# Altium integrated library National Semiconductor Switcher.IntLib: 2226 symbols (part 22 of 59)
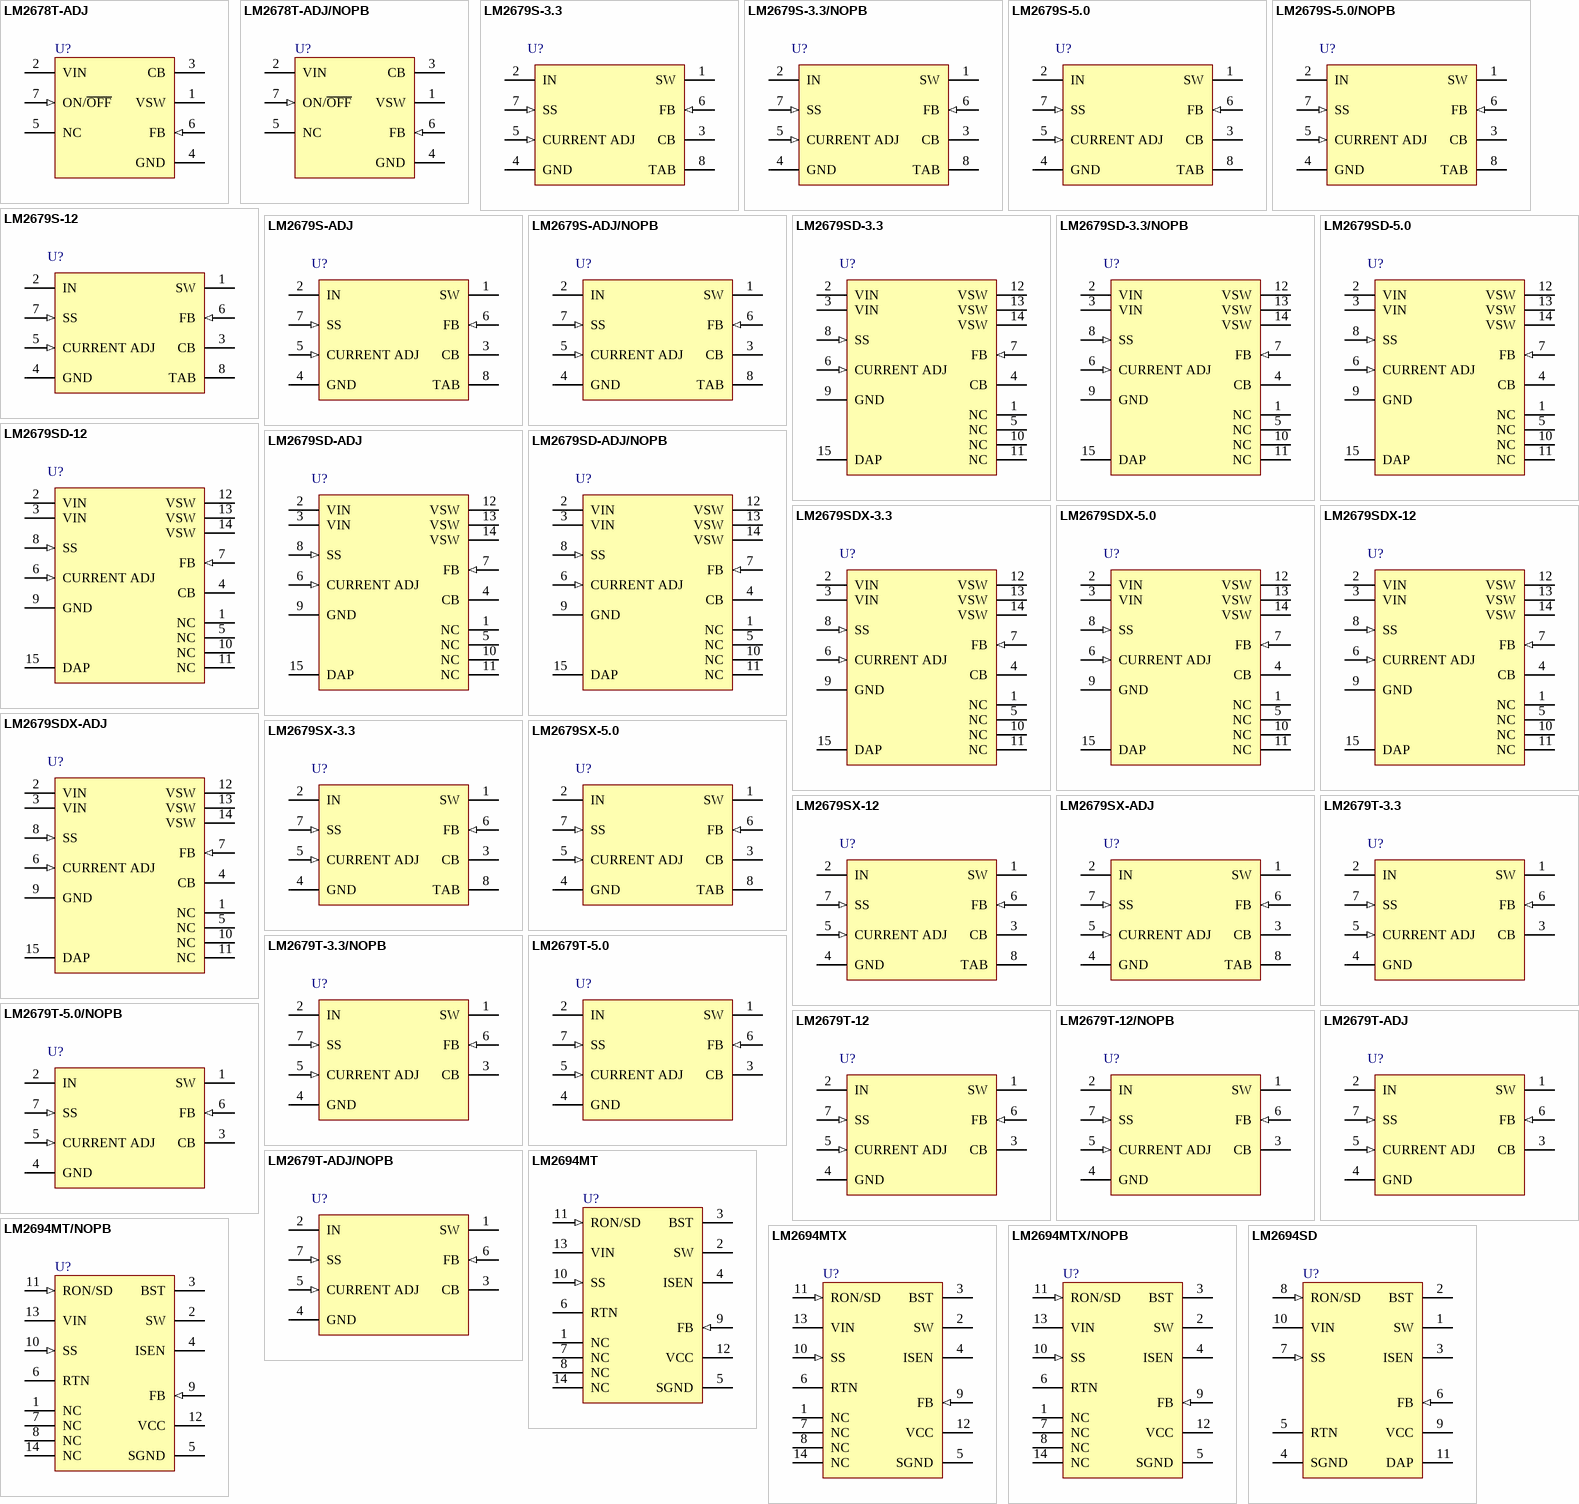
[diagram p90: symbols LM2678T-ADJ to LM2694SD]

## LM2679T-12
designator U?
SIMPLE SWITCHER® 5A Step-Down Voltage Regulator with Adjustable Current Limit, 7-pin TO-220; PartNumber: LM2679T-12; Manufacturer: National Semiconductor; PackageTopMarking: NSUZXYTTE#*LM2679*T-12; PowerWise: N; High-Reliability: Y; DatasheetVersion: Feb-2008; PackageVersion: revC, Apr-1999; PackageReference: TA07B; PackageDescription: TO-220, Molded, .400 x .590 x .180in Body, 7 Lead, .050in Pitch, Staggered; RoHS: N; PinCount: 7; CompType: Switcher; Code_JEDEC: TO-220-AB; ComponentLink1Description: Manufacturer URL; ComponentLink1URL: http://www.national.com/; ComponentLink2Description: LM2679 Datasheet; ComponentLink2URL: http://www.national.com/ds/LM/LM2679.pdf; ComponentLink3Description: LM2679 Web Page; ComponentLink3URL: http://www.national.com/pf/LM/LM2679.html; ComponentLink4Description: TA07B Package Page; ComponentLink4URL: http://www.national.com/packaging/folders/ta07b.html
footprint TA07B (TO, Thru-Hole, Vertical, Heatsink Mounted; 7 Bent Staggered Leads; Body 10.2x8.7x4.6mm, Pitch 1.27 mm)
pins: 1 SW (power), 2 IN (power), 3 CB, 4 GND (power), 5 CURRENT ADJ (in), 6 FB (in), 7 SS (in)

## LM2679T-12/NOPB
designator U?
SIMPLE SWITCHER® 5A Step-Down Voltage Regulator with Adjustable Current Limit, 7-pin TO-220, Pb-Free; PartNumber: LM2679T-12/NOPB; Manufacturer: National Semiconductor; PackageTopMarking: NSUZXYTTE#*LM2679*T-12; PowerWise: N; High-Reliability: Y; DatasheetVersion: Feb-2008; PackageVersion: revC, Apr-1999; PackageReference: TA07B; PackageDescription: TO-220, Molded, .400 x .590 x .180in Body, 7 Lead, .050in Pitch, Staggered; RoHS: Y; PinCount: 7; CompType: Switcher; Code_JEDEC: TO-220-AB; ComponentLink1Description: Manufacturer URL; ComponentLink1URL: http://www.national.com/; ComponentLink2Description: LM2679 Datasheet; ComponentLink2URL: http://www.national.com/ds/LM/LM2679.pdf; ComponentLink3Description: LM2679 Web Page; ComponentLink3URL: http://www.national.com/pf/LM/LM2679.html; ComponentLink4Description: TA07B Package Page; ComponentLink4URL: http://www.national.com/packaging/folders/ta07b.html
footprint TA07B (TO, Thru-Hole, Vertical, Heatsink Mounted; 7 Bent Staggered Leads; Body 10.2x8.7x4.6mm, Pitch 1.27 mm)
pins: 1 SW (power), 2 IN (power), 3 CB, 4 GND (power), 5 CURRENT ADJ (in), 6 FB (in), 7 SS (in)

## LM2679T-ADJ
designator U?
SIMPLE SWITCHER® 5A Step-Down Voltage Regulator with Adjustable Current Limit, 7-pin TO-220; PartNumber: LM2679T-ADJ; Manufacturer: National Semiconductor; PackageTopMarking: NSUZXYTTE#*LM2679*T-ADJ; PowerWise: N; High-Reliability: Y; DatasheetVersion: Feb-2008; PackageVersion: revC, Apr-1999; PackageReference: TA07B; PackageDescription: TO-220, Molded, .400 x .590 x .180in Body, 7 Lead, .050in Pitch, Staggered; RoHS: N; PinCount: 7; CompType: Switcher; Code_JEDEC: TO-220-AB; ComponentLink1Description: Manufacturer URL; ComponentLink1URL: http://www.national.com/; ComponentLink2Description: LM2679 Datasheet; ComponentLink2URL: http://www.national.com/ds/LM/LM2679.pdf; ComponentLink3Description: LM2679 Web Page; ComponentLink3URL: http://www.national.com/pf/LM/LM2679.html; ComponentLink4Description: TA07B Package Page; ComponentLink4URL: http://www.national.com/packaging/folders/ta07b.html
footprint TA07B (TO, Thru-Hole, Vertical, Heatsink Mounted; 7 Bent Staggered Leads; Body 10.2x8.7x4.6mm, Pitch 1.27 mm)
pins: 1 SW (power), 2 IN (power), 3 CB, 4 GND (power), 5 CURRENT ADJ (in), 6 FB (in), 7 SS (in)

## LM2679T-ADJ/NOPB
designator U?
SIMPLE SWITCHER® 5A Step-Down Voltage Regulator with Adjustable Current Limit, 7-pin TO-220, Pb-Free; PartNumber: LM2679T-ADJ/NOPB; Manufacturer: National Semiconductor; PackageTopMarking: NSUZXYTTE#*LM2679*T-ADJ; PowerWise: N; High-Reliability: Y; DatasheetVersion: Feb-2008; PackageVersion: revC, Apr-1999; PackageReference: TA07B; PackageDescription: TO-220, Molded, .400 x .590 x .180in Body, 7 Lead, .050in Pitch, Staggered; RoHS: Y; PinCount: 7; CompType: Switcher; Code_JEDEC: TO-220-AB; ComponentLink1Description: Manufacturer URL; ComponentLink1URL: http://www.national.com/; ComponentLink2Description: LM2679 Datasheet; ComponentLink2URL: http://www.national.com/ds/LM/LM2679.pdf; ComponentLink3Description: LM2679 Web Page; ComponentLink3URL: http://www.national.com/pf/LM/LM2679.html; ComponentLink4Description: TA07B Package Page; ComponentLink4URL: http://www.national.com/packaging/folders/ta07b.html
footprint TA07B (TO, Thru-Hole, Vertical, Heatsink Mounted; 7 Bent Staggered Leads; Body 10.2x8.7x4.6mm, Pitch 1.27 mm)
pins: 1 SW (power), 2 IN (power), 3 CB, 4 GND (power), 5 CURRENT ADJ (in), 6 FB (in), 7 SS (in)

## LM2694MT
designator U?
30V, 600 mA Step Down Switching Regulator, 14-pin TSSOP; PartNumber: LM2694MT; Manufacturer: National Semiconductor; PackageTopMarking: NSUZXYTT*L2694*MT; PowerWise: N; CompType: Switcher; High-Reliability: Y; DatasheetVersion: May-2006; PackageVersion: revD, Jun-2003; PackageReference: MTC14; PackageDescription: Molded TSSOP, JEDEC, 5 x 4.4 x 0.9mm Body, 14 Lead, 0.65mm Pitch; RoHS: N; PinCount: 14; Code_JEDEC: MO-153-AB-1; ComponentLink1Description: Manufacturer URL; ComponentLink1URL: http://www.national.com/; ComponentLink2Description: LM2694 Datasheet; ComponentLink2URL: http://www.national.com/ds/LM/LM2694.pdf; ComponentLink3Description: LM2694 Web Page; ComponentLink3URL: http://www.national.com/pf/LM/LM2694.html; ComponentLink4Description: MTC14 Package Page; ComponentLink4URL: http://www.national.com/packaging/folders/mtc14.html
footprint MTC14_N (TSOP, 14-Leads, Body 5x4.4mm, Pitch 0.65mm, IPC Medium Density)
footprint MTC14_L (TSOP, 14-Leads, Body 5x4.4mm, Pitch 0.65mm, IPC High Density)
footprint MTC14_M (TSOP, 14-Leads, Body 5x4.4mm, Pitch 0.65mm, IPC Low Density)
pins: 1 NC, 2 SW (power), 3 BST, 4 ISEN, 5 SGND (power), 6 RTN (power), 7 NC, 8 NC, 9 FB (in), 10 SS (in), 11 RON/SD (in), 12 VCC (power), 13 VIN (power), 14 NC

## LM2694MT/NOPB
designator U?
30V, 600 mA Step Down Switching Regulator, 14-pin TSSOP, Pb-Free; PartNumber: LM2694MT/NOPB; Manufacturer: National Semiconductor; PackageTopMarking: NSUZXYTT*L2694*MT; PowerWise: N; CompType: Switcher; High-Reliability: Y; DatasheetVersion: May-2006; PackageVersion: revD, Jun-2003; PackageReference: MTC14; PackageDescription: Molded TSSOP, JEDEC, 5 x 4.4 x 0.9mm Body, 14 Lead, 0.65mm Pitch; RoHS: Y; PinCount: 14; Code_JEDEC: MO-153-AB-1; ComponentLink1Description: Manufacturer URL; ComponentLink1URL: http://www.national.com/; ComponentLink2Description: LM2694 Datasheet; ComponentLink2URL: http://www.national.com/ds/LM/LM2694.pdf; ComponentLink3Description: LM2694 Web Page; ComponentLink3URL: http://www.national.com/pf/LM/LM2694.html; ComponentLink4Description: MTC14 Package Page; ComponentLink4URL: http://www.national.com/packaging/folders/mtc14.html
footprint MTC14_N (TSOP, 14-Leads, Body 5x4.4mm, Pitch 0.65mm, IPC Medium Density)
footprint MTC14_L (TSOP, 14-Leads, Body 5x4.4mm, Pitch 0.65mm, IPC High Density)
footprint MTC14_M (TSOP, 14-Leads, Body 5x4.4mm, Pitch 0.65mm, IPC Low Density)
pins: 1 NC, 2 SW (power), 3 BST, 4 ISEN, 5 SGND (power), 6 RTN (power), 7 NC, 8 NC, 9 FB (in), 10 SS (in), 11 RON/SD (in), 12 VCC (power), 13 VIN (power), 14 NC

## LM2694MTX
designator U?
30V, 600 mA Step Down Switching Regulator, 14-pin TSSOP; PartNumber: LM2694MTX; Manufacturer: National Semiconductor; PackageTopMarking: NSUZXYTT*L2694*MT; PowerWise: N; CompType: Switcher; High-Reliability: Y; DatasheetVersion: May-2006; PackageVersion: revD, Jun-2003; PackageReference: MTC14; PackageDescription: Molded TSSOP, JEDEC, 5 x 4.4 x 0.9mm Body, 14 Lead, 0.65mm Pitch; RoHS: N; PinCount: 14; Code_JEDEC: MO-153-AB-1; ComponentLink1Description: Manufacturer URL; ComponentLink1URL: http://www.national.com/; ComponentLink2Description: LM2694 Datasheet; ComponentLink2URL: http://www.national.com/ds/LM/LM2694.pdf; ComponentLink3Description: LM2694 Web Page; ComponentLink3URL: http://www.national.com/pf/LM/LM2694.html; ComponentLink4Description: MTC14 Package Page; ComponentLink4URL: http://www.national.com/packaging/folders/mtc14.html
footprint MTC14_N (TSOP, 14-Leads, Body 5x4.4mm, Pitch 0.65mm, IPC Medium Density)
footprint MTC14_L (TSOP, 14-Leads, Body 5x4.4mm, Pitch 0.65mm, IPC High Density)
footprint MTC14_M (TSOP, 14-Leads, Body 5x4.4mm, Pitch 0.65mm, IPC Low Density)
pins: 1 NC, 2 SW (power), 3 BST, 4 ISEN, 5 SGND (power), 6 RTN (power), 7 NC, 8 NC, 9 FB (in), 10 SS (in), 11 RON/SD (in), 12 VCC (power), 13 VIN (power), 14 NC

## LM2694MTX/NOPB
designator U?
30V, 600 mA Step Down Switching Regulator, 14-pin TSSOP, Pb-Free; PartNumber: LM2694MTX/NOPB; Manufacturer: National Semiconductor; PackageTopMarking: NSUZXYTT*L2694*MT; PowerWise: N; CompType: Switcher; High-Reliability: Y; DatasheetVersion: May-2006; PackageVersion: revD, Jun-2003; PackageReference: MTC14; PackageDescription: Molded TSSOP, JEDEC, 5 x 4.4 x 0.9mm Body, 14 Lead, 0.65mm Pitch; RoHS: Y; PinCount: 14; Code_JEDEC: MO-153-AB-1; ComponentLink1Description: Manufacturer URL; ComponentLink1URL: http://www.national.com/; ComponentLink2Description: LM2694 Datasheet; ComponentLink2URL: http://www.national.com/ds/LM/LM2694.pdf; ComponentLink3Description: LM2694 Web Page; ComponentLink3URL: http://www.national.com/pf/LM/LM2694.html; ComponentLink4Description: MTC14 Package Page; ComponentLink4URL: http://www.national.com/packaging/folders/mtc14.html
footprint MTC14_N (TSOP, 14-Leads, Body 5x4.4mm, Pitch 0.65mm, IPC Medium Density)
footprint MTC14_L (TSOP, 14-Leads, Body 5x4.4mm, Pitch 0.65mm, IPC High Density)
footprint MTC14_M (TSOP, 14-Leads, Body 5x4.4mm, Pitch 0.65mm, IPC Low Density)
pins: 1 NC, 2 SW (power), 3 BST, 4 ISEN, 5 SGND (power), 6 RTN (power), 7 NC, 8 NC, 9 FB (in), 10 SS (in), 11 RON/SD (in), 12 VCC (power), 13 VIN (power), 14 NC

## LM2694SD
designator U?
30V, 600 mA Step Down Switching Regulator, 10-pin LLP; PartNumber: LM2694SD; Manufacturer: National Semiconductor; PackageTopMarking: ZXYTT*L2694; PowerWise: N; CompType: Switcher; High-Reliability: Y; DatasheetVersion: May-2006; PackageVersion: revA, Oct-2003; PackageReference: SDA10A; PackageDescription: LLP, Plastic, Dual, 3 x 3 x 0.8mm Body, 10 Lead, 0.5mm Pitch, No Pullback; RoHS: N; PinCount: 10; ComponentLink1Description: Manufacturer URL; ComponentLink1URL: http://www.national.com/; ComponentLink2Description: LM2694 Datasheet; ComponentLink2URL: http://www.national.com/ds/LM/LM2694.pdf; ComponentLink3Description: LM2694 Web Page; ComponentLink3URL: http://www.national.com/pf/LM/LM2694.html; ComponentLink4Description: SDA10A Package Page; ComponentLink4URL: http://www.national.com/packaging/folders/sda10a.html
footprint SDA10A (SON, 10-Leads, Body 3x3 mm, Pitch 0.5mm, NSC Recommended)
pins: 1 SW (power), 2 BST, 3 ISEN, 4 SGND (power), 5 RTN (power), 6 FB (in), 7 SS (in), 8 RON/SD (in), 9 VCC (power), 10 VIN (power), 11 DAP (power)

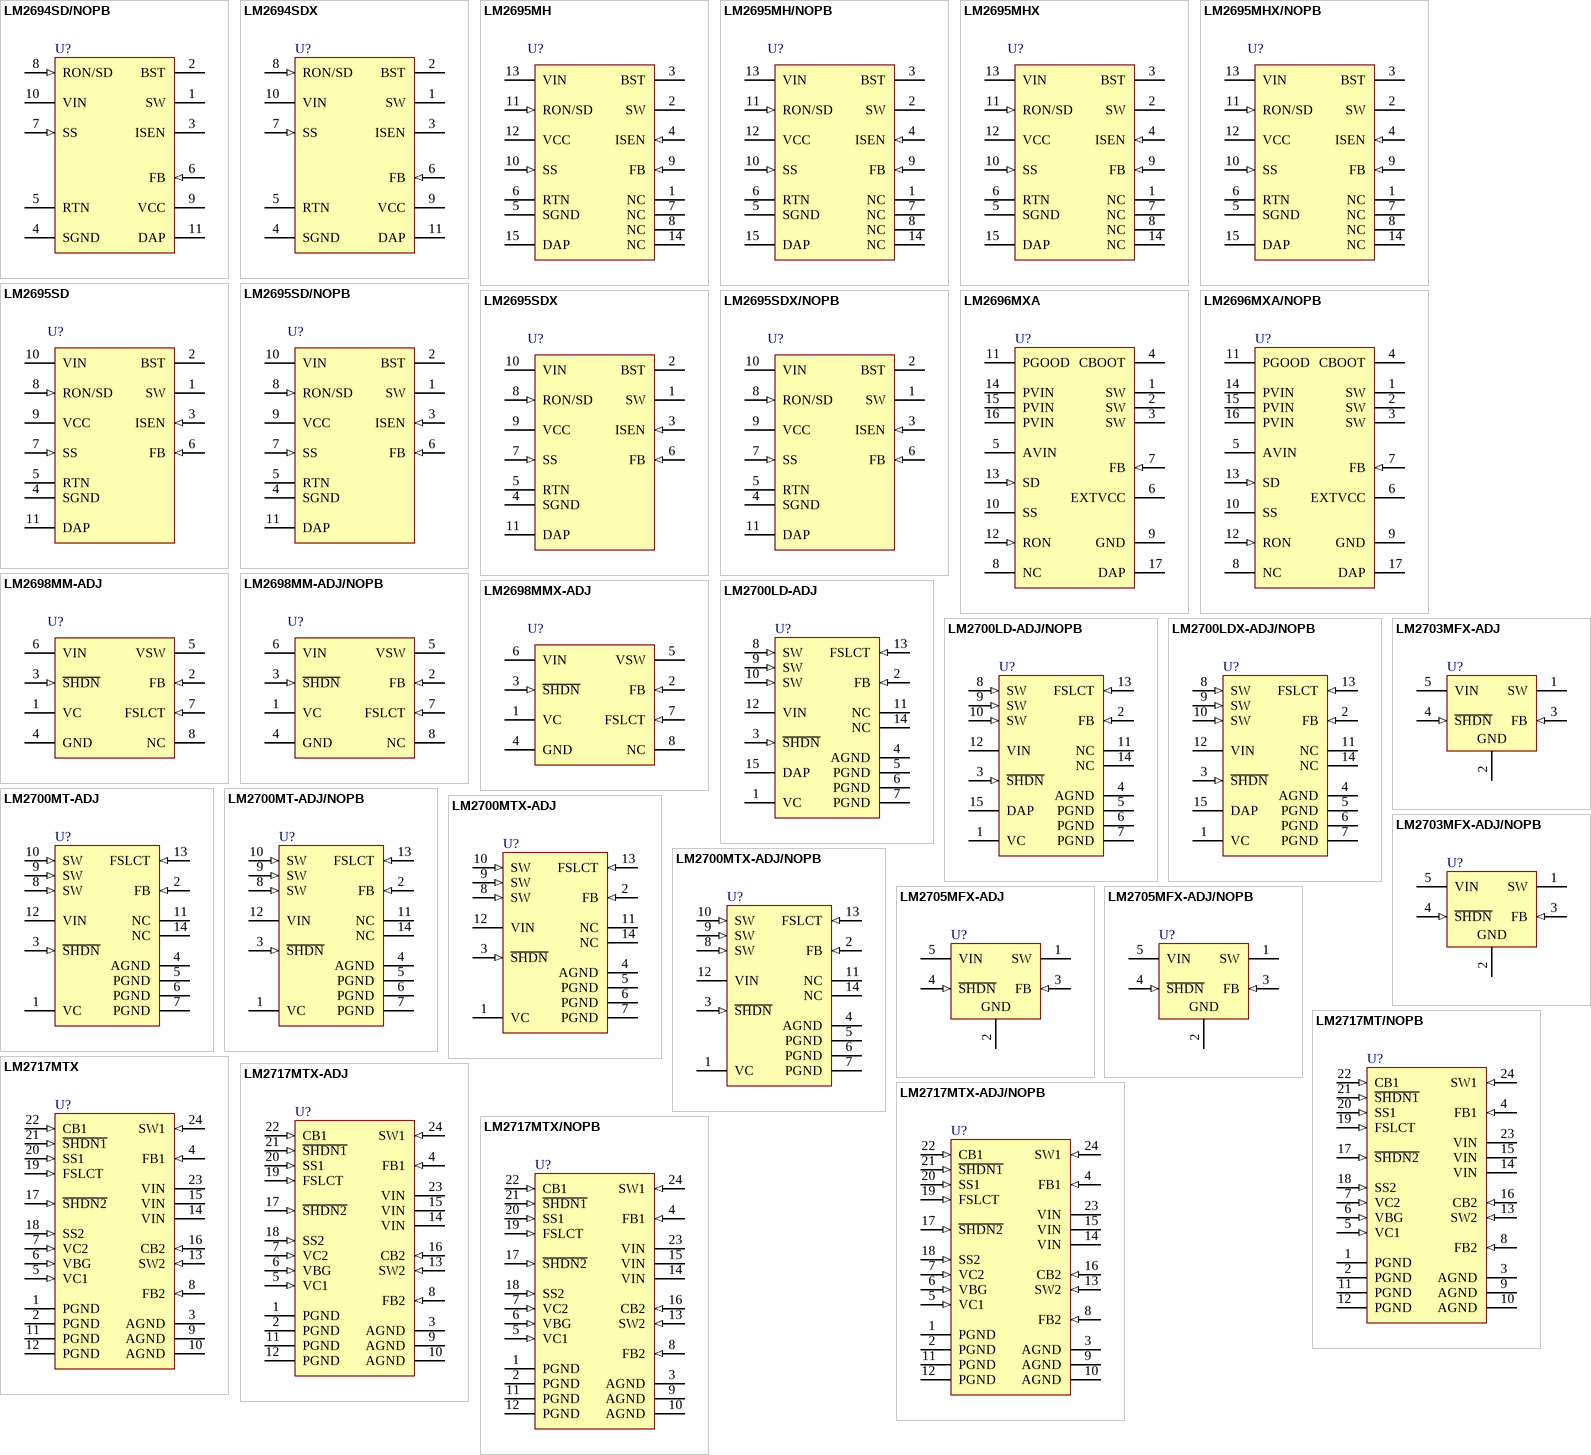
[diagram p23: symbols LM2694SD/NOPB to LM2717MTX/NOPB]

## LM2694SD/NOPB
designator U?
30V, 600 mA Step Down Switching Regulator, 10-pin LLP; PartNumber: LM2694SD/NOPB; Manufacturer: National Semiconductor; PackageTopMarking: ZXYTT*L2694; PowerWise: N; CompType: Switcher; High-Reliability: Y; DatasheetVersion: May-2006; PackageVersion: revA, Oct-2003; PackageReference: SDA10A; PackageDescription: LLP, Plastic, Dual, 3 x 3 x 0.8mm Body, 10 Lead, 0.5mm Pitch, No Pullback; RoHS: Y; PinCount: 10; ComponentLink1Description: Manufacturer URL; ComponentLink1URL: http://www.national.com/; ComponentLink2Description: LM2694 Datasheet; ComponentLink2URL: http://www.national.com/ds/LM/LM2694.pdf; ComponentLink3Description: LM2694 Web Page; ComponentLink3URL: http://www.national.com/pf/LM/LM2694.html; ComponentLink4Description: SDA10A Package Page; ComponentLink4URL: http://www.national.com/packaging/folders/sda10a.html
footprint SDA10A (SON, 10-Leads, Body 3x3 mm, Pitch 0.5mm, NSC Recommended)
pins: 1 SW (power), 2 BST, 3 ISEN, 4 SGND (power), 5 RTN (power), 6 FB (in), 7 SS (in), 8 RON/SD (in), 9 VCC (power), 10 VIN (power), 11 DAP (power)

## LM2694SDX
designator U?
30V, 600 mA Step Down Switching Regulator, 10-pin LLP; PartNumber: LM2694SDX; Manufacturer: National Semiconductor; PackageTopMarking: ZXYTT*L2694; PowerWise: N; CompType: Switcher; High-Reliability: Y; DatasheetVersion: May-2006; PackageVersion: revA, Oct-2003; PackageReference: SDA10A; PackageDescription: LLP, Plastic, Dual, 3 x 3 x 0.8mm Body, 10 Lead, 0.5mm Pitch, No Pullback; RoHS: N; PinCount: 10; ComponentLink1Description: Manufacturer URL; ComponentLink1URL: http://www.national.com/; ComponentLink2Description: LM2694 Datasheet; ComponentLink2URL: http://www.national.com/ds/LM/LM2694.pdf; ComponentLink3Description: LM2694 Web Page; ComponentLink3URL: http://www.national.com/pf/LM/LM2694.html; ComponentLink4Description: SDA10A Package Page; ComponentLink4URL: http://www.national.com/packaging/folders/sda10a.html
footprint SDA10A (SON, 10-Leads, Body 3x3 mm, Pitch 0.5mm, NSC Recommended)
pins: 1 SW (power), 2 BST, 3 ISEN, 4 SGND (power), 5 RTN (power), 6 FB (in), 7 SS (in), 8 RON/SD (in), 9 VCC (power), 10 VIN (power), 11 DAP (power)

## LM2695MH
designator U?
High Voltage (30V, 1.25A) Step Down Switching Regulator, 14-pin TSSOP-EP; PartNumber: LM2695MH; Manufacturer: National Semiconductor; PackageTopMarking: NSUZXYTT*L2695*MH; PowerWise: N; CompType: Switcher; High-Reliability: Y; DatasheetVersion: Jan-2006; PackageVersion: revA, Feb-2003; PackageReference: MXA14A; PackageDescription: Molded TSSOP, JEDEC, Exposed Pad, 5.0 x 4.4 x 0.9mm Body, 14 Lead, 0.65mm Pitch; RoHS: N; PinCount: 14; Code_JEDEC: MO-153-ABT-1; ComponentLink1Description: Manufacturer URL; ComponentLink1URL: http://www.national.com/; ComponentLink2Description: LM2695 Datasheet; ComponentLink2URL: http://www.national.com/ds/LM/LM2695.pdf; ComponentLink3Description: LM2695 Web Page; ComponentLink3URL: http://www.national.com/pf/LM/LM2695.html; ComponentLink4Description: MXA14A Package Page; ComponentLink4URL: http://www.national.com/packaging/folders/mxa14a.html
footprint MXA14A_N (TSOP, 14-Leads, Body 5x4.4mm, Pitch 0.65mm, Thermal Pad, IPC Medium Density)
footprint MXA14A_L (TSOP, 14-Leads, Body 5x4.4mm, Pitch 0.65mm, Thermal Pad, IPC High Density)
footprint MXA14A_M (TSOP, 14-Leads, Body 5x4.4mm, Pitch 0.65mm, Thermal Pad, IPC Low Density)
pins: 1 NC, 2 SW (power), 3 BST, 4 ISEN (in), 5 SGND (power), 6 RTN (power), 7 NC, 8 NC, 9 FB (in), 10 SS (in), 11 RON/SD (in), 12 VCC (power), 13 VIN (power), 14 NC, 15 DAP (power)

## LM2695MH/NOPB
designator U?
High Voltage (30V, 1.25A) Step Down Switching Regulator, 14-pin TSSOP-EP, Pb-Free; PartNumber: LM2695MH/NOPB; Manufacturer: National Semiconductor; PackageTopMarking: NSUZXYTT*L2695*MH; PowerWise: N; CompType: Switcher; High-Reliability: Y; DatasheetVersion: Jan-2006; PackageVersion: revA, Feb-2003; PackageReference: MXA14A; PackageDescription: Molded TSSOP, JEDEC, Exposed Pad, 5.0 x 4.4 x 0.9mm Body, 14 Lead, 0.65mm Pitch; RoHS: Y; PinCount: 14; Code_JEDEC: MO-153-ABT-1; ComponentLink1Description: Manufacturer URL; ComponentLink1URL: http://www.national.com/; ComponentLink2Description: LM2695 Datasheet; ComponentLink2URL: http://www.national.com/ds/LM/LM2695.pdf; ComponentLink3Description: LM2695 Web Page; ComponentLink3URL: http://www.national.com/pf/LM/LM2695.html; ComponentLink4Description: MXA14A Package Page; ComponentLink4URL: http://www.national.com/packaging/folders/mxa14a.html
footprint MXA14A_N (TSOP, 14-Leads, Body 5x4.4mm, Pitch 0.65mm, Thermal Pad, IPC Medium Density)
footprint MXA14A_L (TSOP, 14-Leads, Body 5x4.4mm, Pitch 0.65mm, Thermal Pad, IPC High Density)
footprint MXA14A_M (TSOP, 14-Leads, Body 5x4.4mm, Pitch 0.65mm, Thermal Pad, IPC Low Density)
pins: 1 NC, 2 SW (power), 3 BST, 4 ISEN (in), 5 SGND (power), 6 RTN (power), 7 NC, 8 NC, 9 FB (in), 10 SS (in), 11 RON/SD (in), 12 VCC (power), 13 VIN (power), 14 NC, 15 DAP (power)

## LM2695MHX
designator U?
High Voltage (30V, 1.25A) Step Down Switching Regulator, 14-pin TSSOP-EP; PartNumber: LM2695MHX; Manufacturer: National Semiconductor; PackageTopMarking: NSUZXYTT*L2695*MH; PowerWise: N; CompType: Switcher; High-Reliability: Y; DatasheetVersion: Jan-2006; PackageVersion: revA, Feb-2003; PackageReference: MXA14A; PackageDescription: Molded TSSOP, JEDEC, Exposed Pad, 5.0 x 4.4 x 0.9mm Body, 14 Lead, 0.65mm Pitch; RoHS: N; PinCount: 14; Code_JEDEC: MO-153-ABT-1; ComponentLink1Description: Manufacturer URL; ComponentLink1URL: http://www.national.com/; ComponentLink2Description: LM2695 Datasheet; ComponentLink2URL: http://www.national.com/ds/LM/LM2695.pdf; ComponentLink3Description: LM2695 Web Page; ComponentLink3URL: http://www.national.com/pf/LM/LM2695.html; ComponentLink4Description: MXA14A Package Page; ComponentLink4URL: http://www.national.com/packaging/folders/mxa14a.html
footprint MXA14A_N (TSOP, 14-Leads, Body 5x4.4mm, Pitch 0.65mm, Thermal Pad, IPC Medium Density)
footprint MXA14A_L (TSOP, 14-Leads, Body 5x4.4mm, Pitch 0.65mm, Thermal Pad, IPC High Density)
footprint MXA14A_M (TSOP, 14-Leads, Body 5x4.4mm, Pitch 0.65mm, Thermal Pad, IPC Low Density)
pins: 1 NC, 2 SW (power), 3 BST, 4 ISEN (in), 5 SGND (power), 6 RTN (power), 7 NC, 8 NC, 9 FB (in), 10 SS (in), 11 RON/SD (in), 12 VCC (power), 13 VIN (power), 14 NC, 15 DAP (power)

## LM2695MHX/NOPB
designator U?
High Voltage (30V, 1.25A) Step Down Switching Regulator, 14-pin TSSOP-EP, Pb-Free; PartNumber: LM2695MHX/NOPB; Manufacturer: National Semiconductor; PackageTopMarking: NSUZXYTT*L2695*MH; PowerWise: N; CompType: Switcher; High-Reliability: Y; DatasheetVersion: Jan-2006; PackageVersion: revA, Feb-2003; PackageReference: MXA14A; PackageDescription: Molded TSSOP, JEDEC, Exposed Pad, 5.0 x 4.4 x 0.9mm Body, 14 Lead, 0.65mm Pitch; RoHS: Y; PinCount: 14; Code_JEDEC: MO-153-ABT-1; ComponentLink1Description: Manufacturer URL; ComponentLink1URL: http://www.national.com/; ComponentLink2Description: LM2695 Datasheet; ComponentLink2URL: http://www.national.com/ds/LM/LM2695.pdf; ComponentLink3Description: LM2695 Web Page; ComponentLink3URL: http://www.national.com/pf/LM/LM2695.html; ComponentLink4Description: MXA14A Package Page; ComponentLink4URL: http://www.national.com/packaging/folders/mxa14a.html
footprint MXA14A_N (TSOP, 14-Leads, Body 5x4.4mm, Pitch 0.65mm, Thermal Pad, IPC Medium Density)
footprint MXA14A_L (TSOP, 14-Leads, Body 5x4.4mm, Pitch 0.65mm, Thermal Pad, IPC High Density)
footprint MXA14A_M (TSOP, 14-Leads, Body 5x4.4mm, Pitch 0.65mm, Thermal Pad, IPC Low Density)
pins: 1 NC, 2 SW (power), 3 BST, 4 ISEN (in), 5 SGND (power), 6 RTN (power), 7 NC, 8 NC, 9 FB (in), 10 SS (in), 11 RON/SD (in), 12 VCC (power), 13 VIN (power), 14 NC, 15 DAP (power)

## LM2695SD
designator U?
High Voltage (30V, 1.25A) Step Down Switching Regulator, 10-pin LLP; PartNumber: LM2695SD; Manufacturer: National Semiconductor; PackageTopMarking: NS*UZXYTT*L2695SD; PowerWise: N; CompType: Switcher; High-Reliability: Y; DatasheetVersion: Jan-2006; PackageVersion: revA, May-2003; PackageReference: SDC10A; PackageDescription: LLP, Plastic, Dual, 4 x 4 x 0.8mm Body, 10 Lead, 0.8mm Pitch, No Pullback; RoHS: N; PinCount: 10; ComponentLink1Description: Manufacturer URL; ComponentLink1URL: http://www.national.com/; ComponentLink2Description: LM2695 Datasheet; ComponentLink2URL: http://www.national.com/ds/LM/LM2695.pdf; ComponentLink3Description: LM2695 Web Page; ComponentLink3URL: http://www.national.com/pf/LM/LM2695.html; ComponentLink4Description: SDC10A Package Page; ComponentLink4URL: http://www.national.com/packaging/folders/sdc10a.html
footprint SDC10A (SON, 10-Leads, Body 4x4 mm, Pitch 0.8mm, NSC Recommended)
pins: 1 SW (power), 2 BST, 3 ISEN (in), 4 SGND (power), 5 RTN (power), 6 FB (in), 7 SS (in), 8 RON/SD (in), 9 VCC (power), 10 VIN (power), 11 DAP (power)

## LM2695SD/NOPB
designator U?
High Voltage (30V, 1.25A) Step Down Switching Regulator, 10-pin LLP, Pb-Free; PartNumber: LM2695SD/NOPB; Manufacturer: National Semiconductor; PackageTopMarking: NS*UZXYTT*L2695SD; PowerWise: N; CompType: Switcher; High-Reliability: Y; DatasheetVersion: Jan-2006; PackageVersion: revA, May-2003; PackageReference: SDC10A; PackageDescription: LLP, Plastic, Dual, 4 x 4 x 0.8mm Body, 10 Lead, 0.8mm Pitch, No Pullback; RoHS: Y; PinCount: 10; ComponentLink1Description: Manufacturer URL; ComponentLink1URL: http://www.national.com/; ComponentLink2Description: LM2695 Datasheet; ComponentLink2URL: http://www.national.com/ds/LM/LM2695.pdf; ComponentLink3Description: LM2695 Web Page; ComponentLink3URL: http://www.national.com/pf/LM/LM2695.html; ComponentLink4Description: SDC10A Package Page; ComponentLink4URL: http://www.national.com/packaging/folders/sdc10a.html
footprint SDC10A (SON, 10-Leads, Body 4x4 mm, Pitch 0.8mm, NSC Recommended)
pins: 1 SW (power), 2 BST, 3 ISEN (in), 4 SGND (power), 5 RTN (power), 6 FB (in), 7 SS (in), 8 RON/SD (in), 9 VCC (power), 10 VIN (power), 11 DAP (power)

## LM2695SDX
designator U?
High Voltage (30V, 1.25A) Step Down Switching Regulator, 10-pin LLP; PartNumber: LM2695SDX; Manufacturer: National Semiconductor; PackageTopMarking: NS*UZXYTT*L2695SD; PowerWise: N; CompType: Switcher; High-Reliability: Y; DatasheetVersion: Jan-2006; PackageVersion: revA, May-2003; PackageReference: SDC10A; PackageDescription: LLP, Plastic, Dual, 4 x 4 x 0.8mm Body, 10 Lead, 0.8mm Pitch, No Pullback; RoHS: N; PinCount: 10; ComponentLink1Description: Manufacturer URL; ComponentLink1URL: http://www.national.com/; ComponentLink2Description: LM2695 Datasheet; ComponentLink2URL: http://www.national.com/ds/LM/LM2695.pdf; ComponentLink3Description: LM2695 Web Page; ComponentLink3URL: http://www.national.com/pf/LM/LM2695.html; ComponentLink4Description: SDC10A Package Page; ComponentLink4URL: http://www.national.com/packaging/folders/sdc10a.html
footprint SDC10A (SON, 10-Leads, Body 4x4 mm, Pitch 0.8mm, NSC Recommended)
pins: 1 SW (power), 2 BST, 3 ISEN (in), 4 SGND (power), 5 RTN (power), 6 FB (in), 7 SS (in), 8 RON/SD (in), 9 VCC (power), 10 VIN (power), 11 DAP (power)

## LM2695SDX/NOPB
designator U?
High Voltage (30V, 1.25A) Step Down Switching Regulator, 10-pin LLP, Pb-Free; PartNumber: LM2695SDX/NOPB; Manufacturer: National Semiconductor; PackageTopMarking: NS*UZXYTT*L2695SD; PowerWise: N; CompType: Switcher; High-Reliability: Y; DatasheetVersion: Jan-2006; PackageVersion: revA, May-2003; PackageReference: SDC10A; PackageDescription: LLP, Plastic, Dual, 4 x 4 x 0.8mm Body, 10 Lead, 0.8mm Pitch, No Pullback; RoHS: Y; PinCount: 10; ComponentLink1Description: Manufacturer URL; ComponentLink1URL: http://www.national.com/; ComponentLink2Description: LM2695 Datasheet; ComponentLink2URL: http://www.national.com/ds/LM/LM2695.pdf; ComponentLink3Description: LM2695 Web Page; ComponentLink3URL: http://www.national.com/pf/LM/LM2695.html; ComponentLink4Description: SDC10A Package Page; ComponentLink4URL: http://www.national.com/packaging/folders/sdc10a.html
footprint SDC10A (SON, 10-Leads, Body 4x4 mm, Pitch 0.8mm, NSC Recommended)
pins: 1 SW (power), 2 BST, 3 ISEN (in), 4 SGND (power), 5 RTN (power), 6 FB (in), 7 SS (in), 8 RON/SD (in), 9 VCC (power), 10 VIN (power), 11 DAP (power)

## LM2696MXA
designator U?
3A, Constant On Time Buck Regulator, 16-pin TSSOP-EP; PartNumber: LM2696MXA; Manufacturer: National Semiconductor; PackageTopMarking: NSZXYTT*2696*MXA; PowerWise: N; CompType: Switcher; High-Reliability: Y; DatasheetVersion: May-2009; PackageVersion: revA, Apr-2003; PackageReference: MXA16A; PackageDescription: Molded TSSOP, Jedec, Exposed Pad, 5.0 x 4.4 x 0.9mm Body,16 Lead, 0.65mm Pitch; RoHS: N; PinCount: 16; Code_JEDEC: MO-153-ABT; ComponentLink1Description: Manufacturer URL; ComponentLink1URL: http://www.national.com/; ComponentLink2Description: LM2696 Datasheet; ComponentLink2URL: http://www.national.com/ds/LM/LM2696.pdf; ComponentLink3Description: LM2696 Web Page; ComponentLink3URL: http://www.national.com/pf/LM/LM2696.html; ComponentLink4Description: MXA16A Package Page; ComponentLink4URL: http://www.national.com/packaging/folders/mxa16a.html
footprint MXA16A_N (TSOP, 16-Leads, Body 5x4.4mm, Pitch 0.65mm, Thermal Pad, IPC Medium Density)
footprint MXA16A_L (TSOP, 16-Leads, Body 5x4.4mm, Pitch 0.65mm, Thermal Pad, IPC High Density)
footprint MXA16A_M (TSOP, 16-Leads, Body 5x4.4mm, Pitch 0.65mm, Thermal Pad, IPC Low Density)
pins: 1 SW (power), 2 SW (power), 3 SW (power), 4 CBOOT, 5 AVIN (power), 6 EXTVCC, 7 FB (in), 8 NC, 9 GND (power), 10 SS, 11 PGOOD (oc), 12 RON (in), 13 SD (in), 14 PVIN (power), 15 PVIN (power), 16 PVIN (power), 17 DAP (power)

## LM2696MXA/NOPB
designator U?
3A, Constant On Time Buck Regulator, 16-pin TSSOP-EP, Pb-Free; PartNumber: LM2696MXA/NOPB; Manufacturer: National Semiconductor; PackageTopMarking: NSZXYTT*2696*MXA; PowerWise: N; CompType: Switcher; High-Reliability: Y; DatasheetVersion: May-2009; PackageVersion: revA, Apr-2003; PackageReference: MXA16A; PackageDescription: Molded TSSOP, Jedec, Exposed Pad, 5.0 x 4.4 x 0.9mm Body,16 Lead, 0.65mm Pitch; RoHS: Y; PinCount: 16; Code_JEDEC: MO-153-ABT; ComponentLink1Description: Manufacturer URL; ComponentLink1URL: http://www.national.com/; ComponentLink2Description: LM2696 Datasheet; ComponentLink2URL: http://www.national.com/ds/LM/LM2696.pdf; ComponentLink3Description: LM2696 Web Page; ComponentLink3URL: http://www.national.com/pf/LM/LM2696.html; ComponentLink4Description: MXA16A Package Page; ComponentLink4URL: http://www.national.com/packaging/folders/mxa16a.html
footprint MXA16A_N (TSOP, 16-Leads, Body 5x4.4mm, Pitch 0.65mm, Thermal Pad, IPC Medium Density)
footprint MXA16A_L (TSOP, 16-Leads, Body 5x4.4mm, Pitch 0.65mm, Thermal Pad, IPC High Density)
footprint MXA16A_M (TSOP, 16-Leads, Body 5x4.4mm, Pitch 0.65mm, Thermal Pad, IPC Low Density)
pins: 1 SW (power), 2 SW (power), 3 SW (power), 4 CBOOT, 5 AVIN (power), 6 EXTVCC, 7 FB (in), 8 NC, 9 GND (power), 10 SS, 11 PGOOD (oc), 12 RON (in), 13 SD (in), 14 PVIN (power), 15 PVIN (power), 16 PVIN (power), 17 DAP (power)

## LM2698MM-ADJ
designator U?
SIMPLE SWITCHER® 1.35A Boost Regulator, 8-pin MSOP; PartNumber: LM2698MM-ADJ; Manufacturer: National Semiconductor; PackageTopMarking: ZXTT*S22B; PowerWise: N; High-Reliability: Y; DatasheetVersion: Mar-2005; PackageVersion: revF, Apr-2008; PackageReference: MUA08A; PackageDescription: MINI SOIC, .118 x .118 x .034in, 8 Lead, .0256in Pitch; RoHS: N; PinCount: 8; CompType: Switcher; Code_JEDEC: MO-187-AA; ComponentLink1Description: Manufacturer URL; ComponentLink1URL: http://www.national.com/; ComponentLink2Description: LM2698 Datasheet; ComponentLink2URL: http://www.national.com/ds/LM/LM2698.pdf; ComponentLink3Description: LM2698 Web Page; ComponentLink3URL: http://www.national.com/pf/LM/LM2698.html; ComponentLink4Description: MUA08A Package Page; ComponentLink4URL: http://www.national.com/packaging/folders/mua08a.html
footprint MUA08A_N (TSOP, 8-Leads, Body 3x3mm, Pitch 0.65mm, IPC Medium Density)
footprint MUA08A_L (TSOP, 8-Leads, Body 3x3mm, Pitch 0.65mm, IPC High Density)
footprint MUA08A_M (TSOP, 8-Leads, Body 3x3mm, Pitch 0.65mm, IPC Low Density)
pins: 1 VC, 2 FB (in), 3 ~{SHDN} (in), 4 GND (power), 5 VSW (power), 6 VIN (power), 7 FSLCT (in), 8 NC

## LM2698MM-ADJ/NOPB
designator U?
SIMPLE SWITCHER® 1.35A Boost Regulator, 8-pin MSOP, Pb-Free; PartNumber: LM2698MM-ADJ/NOPB; Manufacturer: National Semiconductor; PackageTopMarking: ZXTT*S22B; PowerWise: N; High-Reliability: Y; DatasheetVersion: Mar-2005; PackageVersion: revF, Apr-2008; PackageReference: MUA08A; PackageDescription: MINI SOIC, .118 x .118 x .034in, 8 Lead, .0256in Pitch; RoHS: Y; PinCount: 8; CompType: Switcher; Code_JEDEC: MO-187-AA; ComponentLink1Description: Manufacturer URL; ComponentLink1URL: http://www.national.com/; ComponentLink2Description: LM2698 Datasheet; ComponentLink2URL: http://www.national.com/ds/LM/LM2698.pdf; ComponentLink3Description: LM2698 Web Page; ComponentLink3URL: http://www.national.com/pf/LM/LM2698.html; ComponentLink4Description: MUA08A Package Page; ComponentLink4URL: http://www.national.com/packaging/folders/mua08a.html
footprint MUA08A_N (TSOP, 8-Leads, Body 3x3mm, Pitch 0.65mm, IPC Medium Density)
footprint MUA08A_L (TSOP, 8-Leads, Body 3x3mm, Pitch 0.65mm, IPC High Density)
footprint MUA08A_M (TSOP, 8-Leads, Body 3x3mm, Pitch 0.65mm, IPC Low Density)
pins: 1 VC, 2 FB (in), 3 ~{SHDN} (in), 4 GND (power), 5 VSW (power), 6 VIN (power), 7 FSLCT (in), 8 NC

## LM2698MMX-ADJ
designator U?
SIMPLE SWITCHER® 1.35A Boost Regulator, 8-pin MSOP; PartNumber: LM2698MMX-ADJ; Manufacturer: National Semiconductor; PackageTopMarking: ZXTT*S22B; PowerWise: N; High-Reliability: Y; DatasheetVersion: Mar-2005; PackageVersion: revF, Apr-2008; PackageReference: MUA08A; PackageDescription: MINI SOIC, .118 x .118 x .034in, 8 Lead, .0256in Pitch; RoHS: N; PinCount: 8; CompType: Switcher; Code_JEDEC: MO-187-AA; ComponentLink1Description: Manufacturer URL; ComponentLink1URL: http://www.national.com/; ComponentLink2Description: LM2698 Datasheet; ComponentLink2URL: http://www.national.com/ds/LM/LM2698.pdf; ComponentLink3Description: LM2698 Web Page; ComponentLink3URL: http://www.national.com/pf/LM/LM2698.html; ComponentLink4Description: MUA08A Package Page; ComponentLink4URL: http://www.national.com/packaging/folders/mua08a.html
footprint MUA08A_N (TSOP, 8-Leads, Body 3x3mm, Pitch 0.65mm, IPC Medium Density)
footprint MUA08A_L (TSOP, 8-Leads, Body 3x3mm, Pitch 0.65mm, IPC High Density)
footprint MUA08A_M (TSOP, 8-Leads, Body 3x3mm, Pitch 0.65mm, IPC Low Density)
pins: 1 VC, 2 FB (in), 3 ~{SHDN} (in), 4 GND (power), 5 VSW (power), 6 VIN (power), 7 FSLCT (in), 8 NC

## LM2700LD-ADJ
designator U?
600kHz/1.25MHz, 2.5A, Step-up PWM DC/DC Converter, 14-pin LLP; PartNumber: LM2700LD-ADJ; Manufacturer: National Semiconductor; PackageTopMarking: NS*UZXYTT*S00001B; PowerWise: N; CompType: Switcher; High-Reliability: Y; DatasheetVersion: May-2004; PackageVersion: revA, Aug-2000; PackageReference: LDA14A; PackageDescription: LLP, Plastic, Dual, 4 x 4 x 0.75mm Body, 14 Lead, 0.5mm Pitch; RoHS: N; PinCount: 14; ComponentLink1Description: Manufacturer URL; ComponentLink1URL: http://www.national.com/; ComponentLink2Description: LM2700 Datasheet; ComponentLink2URL: http://www.national.com/ds/LM/LM2700.pdf; ComponentLink3Description: LM2700 Web Page; ComponentLink3URL: http://www.national.com/pf/LM/LM2700.html; ComponentLink4Description: LDA14A Package Page; ComponentLink4URL: http://www.national.com/packaging/folders/lda14a.html
footprint LDA14A (PSON, 14-Leads, Body 4x4mm, Pitch 0.5mm, NSC Recommended)
pins: 1 VC, 2 FB (in), 3 ~{SHDN} (in), 4 AGND (power), 5 PGND (power), 6 PGND (power), 7 PGND (power), 8 SW (in), 9 SW (in), 10 SW (in), 11 NC, 12 VIN (power), 13 FSLCT (in), 14 NC, 15 DAP (power)

## LM2700LD-ADJ/NOPB
designator U?
600kHz/1.25MHz, 2.5A, Step-up PWM DC/DC Converter, 14-pin LLP, Pb-Free; PartNumber: LM2700LD-ADJ/NOPB; Manufacturer: National Semiconductor; PackageTopMarking: NS*UZXYTT*S00001B; PowerWise: N; CompType: Switcher; High-Reliability: Y; DatasheetVersion: May-2004; PackageVersion: revA, Aug-2000; PackageReference: LDA14A; PackageDescription: LLP, Plastic, Dual, 4 x 4 x 0.75mm Body, 14 Lead, 0.5mm Pitch; RoHS: Y; PinCount: 14; ComponentLink1Description: Manufacturer URL; ComponentLink1URL: http://www.national.com/; ComponentLink2Description: LM2700 Datasheet; ComponentLink2URL: http://www.national.com/ds/LM/LM2700.pdf; ComponentLink3Description: LM2700 Web Page; ComponentLink3URL: http://www.national.com/pf/LM/LM2700.html; ComponentLink4Description: LDA14A Package Page; ComponentLink4URL: http://www.national.com/packaging/folders/lda14a.html
footprint LDA14A (PSON, 14-Leads, Body 4x4mm, Pitch 0.5mm, NSC Recommended)
pins: 1 VC, 2 FB (in), 3 ~{SHDN} (in), 4 AGND (power), 5 PGND (power), 6 PGND (power), 7 PGND (power), 8 SW (in), 9 SW (in), 10 SW (in), 11 NC, 12 VIN (power), 13 FSLCT (in), 14 NC, 15 DAP (power)

## LM2700LDX-ADJ/NOPB
designator U?
600kHz/1.25MHz, 2.5A, Step-up PWM DC/DC Converter, 14-pin LLP, Pb-Free; PartNumber: LM2700LDX-ADJ/NOPB; Manufacturer: National Semiconductor; PackageTopMarking: NS*UZXYTT*S00001B; PowerWise: N; CompType: Switcher; High-Reliability: Y; DatasheetVersion: May-2004; PackageVersion: revA, Aug-2000; PackageReference: LDA14A; PackageDescription: LLP, Plastic, Dual, 4 x 4 x 0.75mm Body, 14 Lead, 0.5mm Pitch; RoHS: Y; PinCount: 14; ComponentLink1Description: Manufacturer URL; ComponentLink1URL: http://www.national.com/; ComponentLink2Description: LM2700 Datasheet; ComponentLink2URL: http://www.national.com/ds/LM/LM2700.pdf; ComponentLink3Description: LM2700 Web Page; ComponentLink3URL: http://www.national.com/pf/LM/LM2700.html; ComponentLink4Description: LDA14A Package Page; ComponentLink4URL: http://www.national.com/packaging/folders/lda14a.html
footprint LDA14A (PSON, 14-Leads, Body 4x4mm, Pitch 0.5mm, NSC Recommended)
pins: 1 VC, 2 FB (in), 3 ~{SHDN} (in), 4 AGND (power), 5 PGND (power), 6 PGND (power), 7 PGND (power), 8 SW (in), 9 SW (in), 10 SW (in), 11 NC, 12 VIN (power), 13 FSLCT (in), 14 NC, 15 DAP (power)

## LM2700MT-ADJ
designator U?
600kHz/1.25MHz, 2.5A, Step-up PWM DC/DC Converter, 14-pin TSSOP; PartNumber: LM2700MT-ADJ; Manufacturer: National Semiconductor; PackageTopMarking: NSZXYTT*2700MT*-ADJ; PowerWise: N; CompType: Switcher; High-Reliability: Y; DatasheetVersion: May-2004; PackageVersion: revD, Jun-2003; PackageReference: MTC14; PackageDescription: Molded TSSOP, JEDEC, 5 x 4.4 x 0.9mm Body, 14 Lead, 0.65mm Pitch; RoHS: N; PinCount: 14; Code_JEDEC: MO-153-AB-1; ComponentLink1Description: Manufacturer URL; ComponentLink1URL: http://www.national.com/; ComponentLink2Description: LM2700 Datasheet; ComponentLink2URL: http://www.national.com/ds/LM/LM2700.pdf; ComponentLink3Description: LM2700 Web Page; ComponentLink3URL: http://www.national.com/pf/LM/LM2700.html; ComponentLink4Description: MTC14 Package Page; ComponentLink4URL: http://www.national.com/packaging/folders/mtc14.html
footprint MTC14_N (TSOP, 14-Leads, Body 5x4.4mm, Pitch 0.65mm, IPC Medium Density)
footprint MTC14_L (TSOP, 14-Leads, Body 5x4.4mm, Pitch 0.65mm, IPC High Density)
footprint MTC14_M (TSOP, 14-Leads, Body 5x4.4mm, Pitch 0.65mm, IPC Low Density)
pins: 1 VC (power), 2 FB (in), 3 ~{SHDN} (in), 4 AGND (power), 5 PGND (power), 6 PGND (power), 7 PGND (power), 8 SW (in), 9 SW (in), 10 SW (in), 11 NC, 12 VIN (power), 13 FSLCT (in), 14 NC

## LM2700MT-ADJ/NOPB
designator U?
600kHz/1.25MHz, 2.5A, Step-up PWM DC/DC Converter, 14-pin TSSOP, Pb-Free; PartNumber: LM2700MT-ADJ/NOPB; Manufacturer: National Semiconductor; PackageTopMarking: NSZXYTT*2700MT*-ADJ; PowerWise: N; CompType: Switcher; High-Reliability: Y; DatasheetVersion: May-2004; PackageVersion: revD, Jun-2003; PackageReference: MTC14; PackageDescription: Molded TSSOP, JEDEC, 5 x 4.4 x 0.9mm Body, 14 Lead, 0.65mm Pitch; RoHS: Y; PinCount: 14; Code_JEDEC: MO-153-AB-1; ComponentLink1Description: Manufacturer URL; ComponentLink1URL: http://www.national.com/; ComponentLink2Description: LM2700 Datasheet; ComponentLink2URL: http://www.national.com/ds/LM/LM2700.pdf; ComponentLink3Description: LM2700 Web Page; ComponentLink3URL: http://www.national.com/pf/LM/LM2700.html; ComponentLink4Description: MTC14 Package Page; ComponentLink4URL: http://www.national.com/packaging/folders/mtc14.html
footprint MTC14_N (TSOP, 14-Leads, Body 5x4.4mm, Pitch 0.65mm, IPC Medium Density)
footprint MTC14_L (TSOP, 14-Leads, Body 5x4.4mm, Pitch 0.65mm, IPC High Density)
footprint MTC14_M (TSOP, 14-Leads, Body 5x4.4mm, Pitch 0.65mm, IPC Low Density)
pins: 1 VC (power), 2 FB (in), 3 ~{SHDN} (in), 4 AGND (power), 5 PGND (power), 6 PGND (power), 7 PGND (power), 8 SW (in), 9 SW (in), 10 SW (in), 11 NC, 12 VIN (power), 13 FSLCT (in), 14 NC

## LM2700MTX-ADJ
designator U?
600kHz/1.25MHz, 2.5A, Step-up PWM DC/DC Converter, 14-pin TSSOP; PartNumber: LM2700MTX-ADJ; Manufacturer: National Semiconductor; PackageTopMarking: NSZXYTT*2700MT*-ADJ; PowerWise: N; CompType: Switcher; High-Reliability: Y; DatasheetVersion: May-2004; PackageVersion: revD, Jun-2003; PackageReference: MTC14; PackageDescription: Molded TSSOP, JEDEC, 5 x 4.4 x 0.9mm Body, 14 Lead, 0.65mm Pitch; RoHS: N; PinCount: 14; Code_JEDEC: MO-153-AB-1; ComponentLink1Description: Manufacturer URL; ComponentLink1URL: http://www.national.com/; ComponentLink2Description: LM2700 Datasheet; ComponentLink2URL: http://www.national.com/ds/LM/LM2700.pdf; ComponentLink3Description: LM2700 Web Page; ComponentLink3URL: http://www.national.com/pf/LM/LM2700.html; ComponentLink4Description: MTC14 Package Page; ComponentLink4URL: http://www.national.com/packaging/folders/mtc14.html
footprint MTC14_N (TSOP, 14-Leads, Body 5x4.4mm, Pitch 0.65mm, IPC Medium Density)
footprint MTC14_L (TSOP, 14-Leads, Body 5x4.4mm, Pitch 0.65mm, IPC High Density)
footprint MTC14_M (TSOP, 14-Leads, Body 5x4.4mm, Pitch 0.65mm, IPC Low Density)
pins: 1 VC (power), 2 FB (in), 3 ~{SHDN} (in), 4 AGND (power), 5 PGND (power), 6 PGND (power), 7 PGND (power), 8 SW (in), 9 SW (in), 10 SW (in), 11 NC, 12 VIN (power), 13 FSLCT (in), 14 NC

## LM2700MTX-ADJ/NOPB
designator U?
600kHz/1.25MHz, 2.5A, Step-up PWM DC/DC Converter, 14-pin TSSOP, Pb-Free; PartNumber: LM2700MTX-ADJ/NOPB; Manufacturer: National Semiconductor; PackageTopMarking: NSZXYTT*2700MT*-ADJ; PowerWise: N; CompType: Switcher; High-Reliability: Y; DatasheetVersion: May-2004; PackageVersion: revD, Jun-2003; PackageReference: MTC14; PackageDescription: Molded TSSOP, JEDEC, 5 x 4.4 x 0.9mm Body, 14 Lead, 0.65mm Pitch; RoHS: Y; PinCount: 14; Code_JEDEC: MO-153-AB-1; ComponentLink1Description: Manufacturer URL; ComponentLink1URL: http://www.national.com/; ComponentLink2Description: LM2700 Datasheet; ComponentLink2URL: http://www.national.com/ds/LM/LM2700.pdf; ComponentLink3Description: LM2700 Web Page; ComponentLink3URL: http://www.national.com/pf/LM/LM2700.html; ComponentLink4Description: MTC14 Package Page; ComponentLink4URL: http://www.national.com/packaging/folders/mtc14.html
footprint MTC14_N (TSOP, 14-Leads, Body 5x4.4mm, Pitch 0.65mm, IPC Medium Density)
footprint MTC14_L (TSOP, 14-Leads, Body 5x4.4mm, Pitch 0.65mm, IPC High Density)
footprint MTC14_M (TSOP, 14-Leads, Body 5x4.4mm, Pitch 0.65mm, IPC Low Density)
pins: 1 VC (power), 2 FB (in), 3 ~{SHDN} (in), 4 AGND (power), 5 PGND (power), 6 PGND (power), 7 PGND (power), 8 SW (in), 9 SW (in), 10 SW (in), 11 NC, 12 VIN (power), 13 FSLCT (in), 14 NC

## LM2703MFX-ADJ
designator U?
Micropower Step-Up DC/DC Converter with 350mA Peak Current Limit, 5-pin SOT-23; PartNumber: LM2703MFX-ADJ; Manufacturer: National Semiconductor; PackageTopMarking: S48B*XTT; PowerWise: N; CompType: Switcher; High-Reliability: Y; DatasheetVersion: Jun-2006; PackageVersion: revD, Aug-2008; PackageReference: MF05A; PackageDescription: Molded SOT-23, .115 x .063 x .040 in Body, 5 Lead, .0375 in Pitch; RoHS: N; PinCount: 5; ComponentLink1Description: Manufacturer URL; ComponentLink1URL: http://www.national.com/; ComponentLink2Description: LM2703 Datasheet; ComponentLink2URL: http://www.national.com/ds/LM/LM2703.pdf; ComponentLink3Description: LM2703 Web Page; ComponentLink3URL: http://www.national.com/pf/LM/LM2703.html; ComponentLink4Description: MF05A Package Page; ComponentLink4URL: http://www.national.com/packaging/folders/mf05a.html
footprint MF05A_N (SOT23, 5-Leads, Body 2.9x1.6mm, Pitch 0.95mm, Lead Span 2.8mm, IPC Medium Density)
footprint MF05A_L (SOT23, 5-Leads, Body 2.9x1.6mm, Pitch 0.95mm, Lead Span 2.8mm, IPC High Density)
footprint MF05A_M (SOT23, 5-Leads, Body 2.9x1.6mm, Pitch 0.95mm, Lead Span 2.8mm, IPC Low Density)
pins: 1 SW (power), 2 GND (power), 3 FB (in), 4 ~{SHDN} (in), 5 VIN (power)

## LM2703MFX-ADJ/NOPB
designator U?
Micropower Step-Up DC/DC Converter with 350mA Peak Current Limit, 5-pin SOT-23, Pb-Free; PartNumber: LM2703MFX-ADJ/NOPB; Manufacturer: National Semiconductor; PackageTopMarking: S48B*XTT; PowerWise: N; CompType: Switcher; High-Reliability: Y; DatasheetVersion: Jun-2006; PackageVersion: revD, Aug-2008; PackageReference: MF05A; PackageDescription: Molded SOT-23, .115 x .063 x .040 in Body, 5 Lead, .0375 in Pitch; RoHS: Y; PinCount: 5; ComponentLink1Description: Manufacturer URL; ComponentLink1URL: http://www.national.com/; ComponentLink2Description: LM2703 Datasheet; ComponentLink2URL: http://www.national.com/ds/LM/LM2703.pdf; ComponentLink3Description: LM2703 Web Page; ComponentLink3URL: http://www.national.com/pf/LM/LM2703.html; ComponentLink4Description: MF05A Package Page; ComponentLink4URL: http://www.national.com/packaging/folders/mf05a.html
footprint MF05A_N (SOT23, 5-Leads, Body 2.9x1.6mm, Pitch 0.95mm, Lead Span 2.8mm, IPC Medium Density)
footprint MF05A_L (SOT23, 5-Leads, Body 2.9x1.6mm, Pitch 0.95mm, Lead Span 2.8mm, IPC High Density)
footprint MF05A_M (SOT23, 5-Leads, Body 2.9x1.6mm, Pitch 0.95mm, Lead Span 2.8mm, IPC Low Density)
pins: 1 SW (power), 2 GND (power), 3 FB (in), 4 ~{SHDN} (in), 5 VIN (power)

## LM2705MFX-ADJ
designator U?
Micropower Step-up DC/DC Converter with 150mA Peak Current Limit, 5-pin SOT-23; PartNumber: LM2705MFX-ADJ; Manufacturer: National Semiconductor; PackageTopMarking: S59B*XTT; PowerWise: N; CompType: Switcher; High-Reliability: Y; DatasheetVersion: Aug-2007; PackageVersion: revD, Aug-2008; PackageReference: MF05A; PackageDescription: Molded SOT-23, .115 x .063 x .040 in Body, 5 Lead, .0375 in Pitch; RoHS: N; PinCount: 5; ComponentLink1Description: Manufacturer URL; ComponentLink1URL: http://www.national.com/; ComponentLink2Description: LM2705 Datasheet; ComponentLink2URL: http://www.national.com/ds/LM/LM2705.pdf; ComponentLink3Description: LM2705 Web Page; ComponentLink3URL: http://www.national.com/pf/LM/LM2705.html; ComponentLink4Description: MF05A Package Page; ComponentLink4URL: http://www.national.com/packaging/folders/mf05a.html
footprint MF05A_N (SOT23, 5-Leads, Body 2.9x1.6mm, Pitch 0.95mm, Lead Span 2.8mm, IPC Medium Density)
footprint MF05A_L (SOT23, 5-Leads, Body 2.9x1.6mm, Pitch 0.95mm, Lead Span 2.8mm, IPC High Density)
footprint MF05A_M (SOT23, 5-Leads, Body 2.9x1.6mm, Pitch 0.95mm, Lead Span 2.8mm, IPC Low Density)
pins: 1 SW (power), 2 GND (power), 3 FB (in), 4 ~{SHDN} (in), 5 VIN (power)

## LM2705MFX-ADJ/NOPB
designator U?
Micropower Step-up DC/DC Converter with 150mA Peak Current Limit, 5-pin SOT-23, Pb-Free; PartNumber: LM2705MFX-ADJ/NOPB; Manufacturer: National Semiconductor; PackageTopMarking: S59B*XTT; PowerWise: N; CompType: Switcher; High-Reliability: Y; DatasheetVersion: Aug-2007; PackageVersion: revD, Aug-2008; PackageReference: MF05A; PackageDescription: Molded SOT-23, .115 x .063 x .040 in Body, 5 Lead, .0375 in Pitch; RoHS: Y; PinCount: 5; ComponentLink1Description: Manufacturer URL; ComponentLink1URL: http://www.national.com/; ComponentLink2Description: LM2705 Datasheet; ComponentLink2URL: http://www.national.com/ds/LM/LM2705.pdf; ComponentLink3Description: LM2705 Web Page; ComponentLink3URL: http://www.national.com/pf/LM/LM2705.html; ComponentLink4Description: MF05A Package Page; ComponentLink4URL: http://www.national.com/packaging/folders/mf05a.html
footprint MF05A_N (SOT23, 5-Leads, Body 2.9x1.6mm, Pitch 0.95mm, Lead Span 2.8mm, IPC Medium Density)
footprint MF05A_L (SOT23, 5-Leads, Body 2.9x1.6mm, Pitch 0.95mm, Lead Span 2.8mm, IPC High Density)
footprint MF05A_M (SOT23, 5-Leads, Body 2.9x1.6mm, Pitch 0.95mm, Lead Span 2.8mm, IPC Low Density)
pins: 1 SW (power), 2 GND (power), 3 FB (in), 4 ~{SHDN} (in), 5 VIN (power)

## LM2717MT/NOPB
designator U?
Dual Step-Down DC/DC Converter, 24-pin TSSOP, Pb-Free; PartNumber: LM2717MT/NOPB; Manufacturer: National Semiconductor; PackageTopMarking: NSUZXYTTE#*LM2717MT; PowerWise: N; CompType: Switcher; High-Reliability: Y; DatasheetVersion: Mar-2008; PackageVersion: revE, Mar-2003; PackageReference: MTC24; PackageDescription: Molded TSSOP, Jedec, 7.8 x 4.4 x 0.9mm Body, 24 Lead, 0.65mm Pitch; RoHS: Y; PinCount: 24; Code_JEDEC: MO-153-AD; ComponentLink1Description: Manufacturer URL; ComponentLink1URL: http://www.national.com/; ComponentLink2Description: LM2717 Datasheet; ComponentLink2URL: http://www.national.com/ds/LM/LM2717.pdf; ComponentLink3Description: LM2717 Web Page; ComponentLink3URL: http://www.national.com/pf/LM/LM2717.html; ComponentLink4Description: MTC24 Package Page; ComponentLink4URL: http://www.national.com/packaging/folders/mtc24.html
footprint MTC24_N (TSOP, 24-Leads, Body 7.8x4.4mm, Pitch 0.65mm, IPC Medium Density)
footprint MTC24_L (TSOP, 24-Leads, Body 7.8x4.4mm, Pitch 0.65mm, IPC High Density)
footprint MTC24_M (TSOP, 24-Leads, Body 7.8x4.4mm, Pitch 0.65mm, IPC Low Density)
pins: 1 PGND (power) "Power ground. AGND and PGND pins must be connected together directly at the part.", 2 PGND (power) "Power ground. AGND and PGND pins must be connected together directly at the part.", 3 AGND (power) "Analog ground. AGND and PGND pins must be connected together directly at the part.", 4 FB1 (in) "Fixed buck output voltage feedback input.", 5 VC1 (in) "Fixed buck compensation network connection. Connected to the output of the voltage error amplifier.", 6 VBG (in) "Bandgap connection.", 7 VC2 (in) "Adjustable buck compensation network connection.", 8 FB2 (in) "Adjustable buck output voltage feedback input.", 9 AGND (power) "Analog ground. AGND and PGND pins must be connected together directly at the part.", 10 AGND (power) "Analog ground. AGND and PGND pins must be connected together directly at the part.", 11 PGND (power) "Power ground. AGND and PGND pins must be connected together directly at the part.", 12 PGND (power) "Power ground. AGND and PGND pins must be connected together directly at the part.", 13 SW2 (in) "Adjustable buck power switch input.", 14 VIN (power) "Analog power input.", 15 VIN (power) "Analog power input.", 16 CB2 (in) "Adjustable buck converter bootstrap capacitor connection.", 17 ~{SHDN2} (in) "Shutdown pin for adjustable buck converter. Active low.", 18 SS2 (in) "Adjustable buck soft start pin.", 19 FSLCT (in) "Switching frequency select input.", 20 SS1 (in) "Fixed buck soft start pin.", 21 ~{SHDN1} (in) "Shutdown pin for fixed buck converter. Active low.", 22 CB1 (in) "Fixed buck converter bootstrap capacitor connection.", 23 VIN (power) "Analog power input.", 24 SW1 (in) "Fixed buck power switch input. Switch connected between VIN pins and SW1 pin."

## LM2717MTX
designator U?
Dual Step-Down DC/DC Converter, 24-pin TSSOP; PartNumber: LM2717MTX; Manufacturer: National Semiconductor; PackageTopMarking: NSUZXYTTE#*LM2717MT; PowerWise: N; CompType: Switcher; High-Reliability: Y; DatasheetVersion: Mar-2008; PackageVersion: revE, Mar-2003; PackageReference: MTC24; PackageDescription: Molded TSSOP, Jedec, 7.8 x 4.4 x 0.9mm Body, 24 Lead, 0.65mm Pitch; RoHS: N; PinCount: 24; Code_JEDEC: MO-153-AD; ComponentLink1Description: Manufacturer URL; ComponentLink1URL: http://www.national.com/; ComponentLink2Description: LM2717 Datasheet; ComponentLink2URL: http://www.national.com/ds/LM/LM2717.pdf; ComponentLink3Description: LM2717 Web Page; ComponentLink3URL: http://www.national.com/pf/LM/LM2717.html; ComponentLink4Description: MTC24 Package Page; ComponentLink4URL: http://www.national.com/packaging/folders/mtc24.html
footprint MTC24_N (TSOP, 24-Leads, Body 7.8x4.4mm, Pitch 0.65mm, IPC Medium Density)
footprint MTC24_L (TSOP, 24-Leads, Body 7.8x4.4mm, Pitch 0.65mm, IPC High Density)
footprint MTC24_M (TSOP, 24-Leads, Body 7.8x4.4mm, Pitch 0.65mm, IPC Low Density)
pins: 1 PGND (power) "Power ground. AGND and PGND pins must be connected together directly at the part.", 2 PGND (power) "Power ground. AGND and PGND pins must be connected together directly at the part.", 3 AGND (power) "Analog ground. AGND and PGND pins must be connected together directly at the part.", 4 FB1 (in) "Fixed buck output voltage feedback input.", 5 VC1 (in) "Fixed buck compensation network connection. Connected to the output of the voltage error amplifier.", 6 VBG (in) "Bandgap connection.", 7 VC2 (in) "Adjustable buck compensation network connection.", 8 FB2 (in) "Adjustable buck output voltage feedback input.", 9 AGND (power) "Analog ground. AGND and PGND pins must be connected together directly at the part.", 10 AGND (power) "Analog ground. AGND and PGND pins must be connected together directly at the part.", 11 PGND (power) "Power ground. AGND and PGND pins must be connected together directly at the part.", 12 PGND (power) "Power ground. AGND and PGND pins must be connected together directly at the part.", 13 SW2 (in) "Adjustable buck power switch input.", 14 VIN (power) "Analog power input.", 15 VIN (power) "Analog power input.", 16 CB2 (in) "Adjustable buck converter bootstrap capacitor connection.", 17 ~{SHDN2} (in) "Shutdown pin for adjustable buck converter. Active low.", 18 SS2 (in) "Adjustable buck soft start pin.", 19 FSLCT (in) "Switching frequency select input.", 20 SS1 (in) "Fixed buck soft start pin.", 21 ~{SHDN1} (in) "Shutdown pin for fixed buck converter. Active low.", 22 CB1 (in) "Fixed buck converter bootstrap capacitor connection.", 23 VIN (power) "Analog power input.", 24 SW1 (in) "Fixed buck power switch input. Switch connected between VIN pins and SW1 pin."